# Altium schematic symbol library 640456-2.SchLib: 1 symbol
Pins are listed as number, name and electrical type; pins without a type are passive.

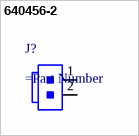
[diagram p0: symbol 640456-2]

## 640456-2
designator J?
=Description
pins: 1, 2